# EAGLE library part IRS2092PBF (library International_Rectifier_By_element14_Batch_1)
PROTECTED DIGITAL AUDIO AMPLIFIER
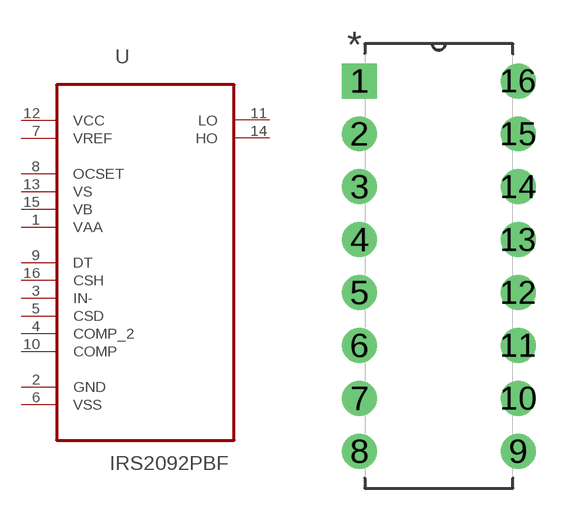
[diagram p91: symbol with the pads of DIP254P762X533-16; footprint DIP254P762X533-16]

Designator prefix U

## IRS2092PBF (MPN: IRS2092PBF; OC_FARNELL: 1688533; OC_NEWARK: 02P2146; PACKAGE: DIP-16; SUPPLIER: INTERNATIONAL RECTIFIER)  [DIP254P762X533-16]
1  VAA  pwr
2  GND  pas
3  IN-  in
4  COMP_2  in
5  CSD  pas
6  VSS  pwr
7  VREF  pwr
8  OCSET  pas
9  DT  in
10  COMP  in
11  LO  out
12  VCC  pwr
13  VS  in
14  HO  out
15  VB  pas
16  CSH  in

## Footprint DIP254P762X533-16 (pad centres in mm)
drill 1.118 square: 1 -7.62,17.78
drill 1.118: 2 -7.62,15.24; 3 -7.62,12.7; 4 -7.62,10.16; 5 -7.62,7.62; 6 -7.62,5.08; 7 -7.62,2.54; 8 -7.62,0; 9 0,0; 10 0,2.54; 11 0,5.08; 12 0,7.62; 13 0,10.16; 14 0,12.7; 15 0,15.24; 16 0,17.78